# Altium footprint library PcbLib1.PcbLib: 1 footprints
Each footprint in its own frame and in the unit in brackets; x right, y up, seen from the top. Pads: shape width x height; smd on the part's side, far side on the other; paste and mask are expansions set on the pad; w line width, h text height; cw(c..) or ccw(c..) is an arc to the next point about the centre after c.
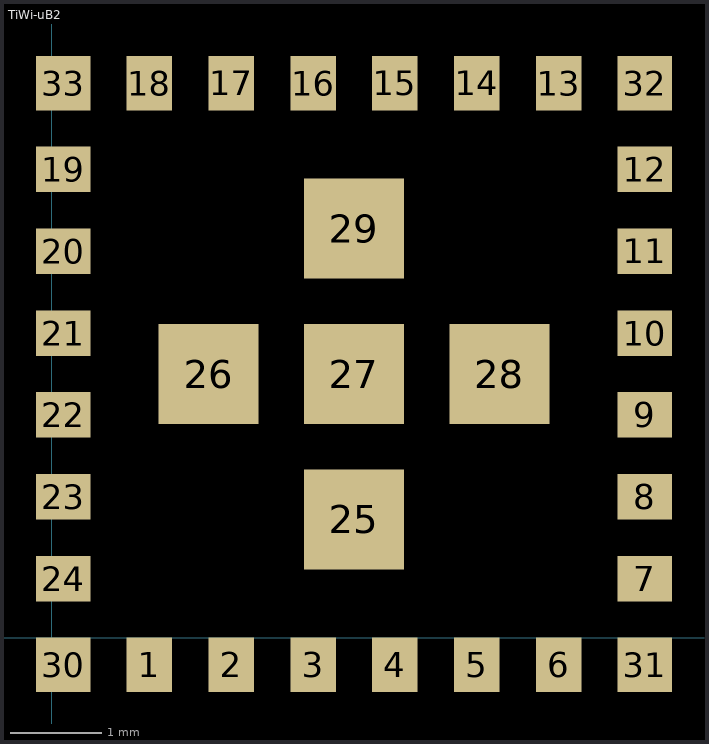
[diagram p0: the footprint, top view; thin cyan lines are the x and y axes]

## TiWi-uB2 [mm]
pads (33):
  rect 0.5x0.6 smd: 1(1.075,-0.3) 2(1.975,-0.3) 3(2.875,-0.3) 4(3.775,-0.3) 5(4.675,-0.3) 6(5.575,-0.3) 13(5.575,6.1) 14(4.675,6.1) 15(3.775,6.1) 16(2.875,6.1) 17(1.975,6.1) 18(1.075,6.1)
  rect 0.6x0.5 smd: 7(6.525,0.65) 8(6.525,1.55) 9(6.525,2.45) 10(6.525,3.35) 11(6.525,4.25) 12(6.525,5.15) 19(0.125,5.15) 20(0.125,4.25) 21(0.125,3.35) 22(0.125,2.45) 23(0.125,1.55) 24(0.125,0.65)
  rect 1.1x1.1 smd: 25(3.325,1.3) 26(1.725,2.9) 27(3.325,2.9) 28(4.925,2.9) 29(3.325,4.5)
  rect 0.6x0.6 smd: 30(0.125,-0.3) 31(6.525,-0.3) 32(6.525,6.1) 33(0.125,6.1)
3D body: height 1.5, standoff -0.05, extent -0.175,-0.6 6.825,6.4